# EAGLE library part MA12-2 (library we-con)
Pin Header
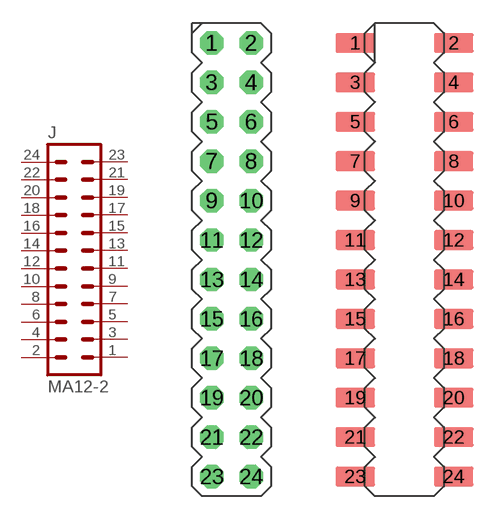
[diagram p15: symbol with the pads of MA12-2; footprints MA12-2, MA12-2_SMD]

Designator prefix J

## MA12-2  [MA12-2]
1  1  pas
2  2  pas
3  3  pas
4  4  pas
5  5  pas
6  6  pas
7  7  pas
8  8  pas
9  9  pas
10  10  pas
11  11  pas
12  12  pas
13  13  pas
14  14  pas
15  15  pas
16  16  pas
17  17  pas
18  18  pas
19  19  pas
20  20  pas
21  21  pas
22  22  pas
23  23  pas
24  24  pas

## MA12-2S  [MA12-2_SMD]
Pads as for MA12-2

## Footprint MA12-2 (pad centres in mm)
drill 1 octagon: 1 -1.27,13.97; 2 1.27,13.97; 3 -1.27,11.43; 4 1.27,11.43; 5 -1.27,8.89; 6 1.27,8.89; 7 -1.27,6.35; 8 1.27,6.35; 9 -1.27,3.81; 10 1.27,3.81; 11 -1.27,1.27; 12 1.27,1.27; 13 -1.27,-1.27; 14 1.27,-1.27; 15 -1.27,-3.81; 16 1.27,-3.81; 17 -1.27,-6.35; 18 1.27,-6.35; 19 -1.27,-8.89; 20 1.27,-8.89; 21 -1.27,-11.43; 22 1.27,-11.43; 23 -1.27,-13.97; 24 1.27,-13.97

## Footprint MA12-2_SMD (pad centres in mm)
smd 2.54 x 1.27: 1 -3.175,13.97; 2 3.175,13.97; 3 -3.175,11.43; 4 3.175,11.43; 5 -3.175,8.89; 6 3.175,8.89; 7 -3.175,6.35; 8 3.175,6.35; 9 -3.175,3.81; 10 3.175,3.81; 11 -3.175,1.27; 12 3.175,1.27; 13 -3.175,-1.27; 14 3.175,-1.27; 15 -3.175,-3.81; 16 3.175,-3.81; 17 -3.175,-6.35; 18 3.175,-6.35; 19 -3.175,-8.89; 20 3.175,-8.89; 21 -3.175,-11.43; 22 3.175,-11.43; 23 -3.175,-13.97; 24 3.175,-13.97